# Altium footprint library WA-MTAB.PcbLib: 8 footprints
Each footprint in its own frame and in the unit in brackets; x right, y up, seen from the top. Pads: shape width x height; smd on the part's side, far side on the other; paste and mask are expansions set on the pad; w line width, h text height; cw(c..) or ccw(c..) is an arc to the next point about the centre after c.
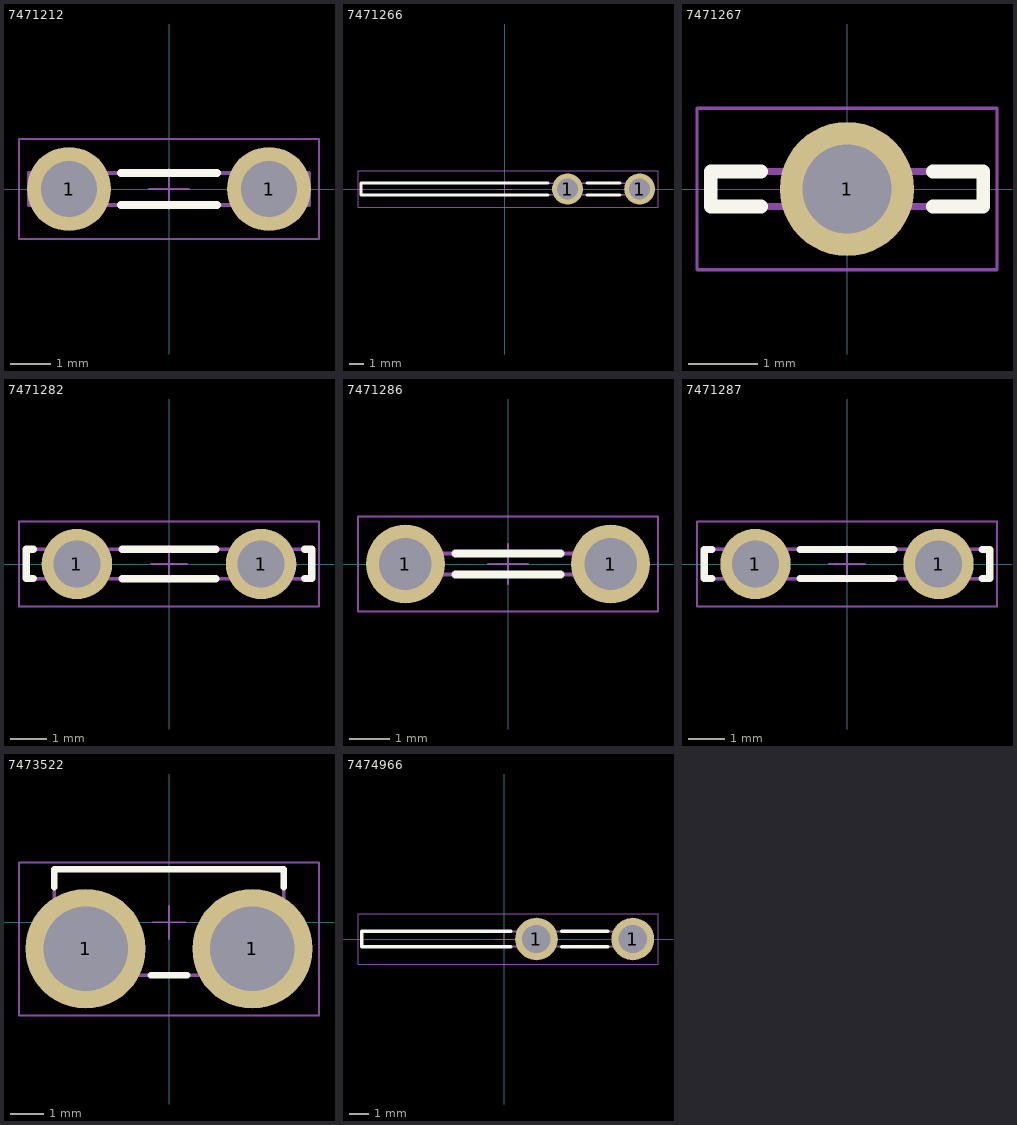
[diagram p0: the footprints below, top view; thin cyan lines are the x and y axes]

## 7471212 [mm] "Mounting Tabs & Tubular Cable Lugs"
height 13
pads (2):
  round 2.1 hole 1.4: 1(-2.5,0) 1(2.5,0)
Top Overlay:
  lines w0.2: -1.2,-0.4 1.2,-0.4 ; -1.2,0.4 1.2,0.4
Top Designator:
  text ".Designator" at -2.499,-0.167 h0.5
Top Component Outline:
  lines w0.1: -3.5,-0.4 3.5,-0.4 3.5,0.4 -3.5,0.4 -3.5,-0.4
Top 3D Body:
  lines w0.1: -3.5,-0.4 -3.5,0.4 3.5,0.4 3.5,-0.4 -3.5,-0.4
Top Courtyard:
  lines w0.05: -0.5,0 0.5,0 ; 0,-0.5 0,0.5 ; -3.75,-1.25 -3.75,1.25 3.75,1.25 3.75,-1.25 -3.75,-1.25
3D body "7471212.stp": height 9.65, standoff -3.35, extent -3.5,-0.4 3.5,0.4

## 7471266 [mm] "Mounting Tabs & Tubular Cable Lugs"
height 12.7
pads (2):
  round 2.15 hole 1.45: 1(4.35,0) 1(9.35,0)
Top Overlay:
  lines w0.2: 3,-0.425 -10,-0.425 -10,0.425 3,0.425 ; 5.7,-0.425 8,-0.425 ; 5.7,0.425 8,0.425
Top Designator:
  text ".Designator" at -2.499,-0.167 h0.5
Top Component Outline:
  lines w0.1: -10,-0.4 -10,0.4 10,0.4 10,-0.4 -10,-0.4
Top 3D Body:
  lines w0.1: -10,-0.4 10,-0.4 10,0.4 -10,0.4 -10,-0.4
Top Courtyard:
  lines w0.05: -0.5,0 0.5,0 ; 0,-0.5 0,0.5 ; -10.2,-1.275 -10.2,1.275 10.625,1.275 10.625,-1.275 -10.2,-1.275
3D body "7471266.stp": height 8.98, standoff -3.72, extent -10,-0.4 10,0.4

## 7471267 [mm] "Mounting Tabs & Tubular Cable Lugs"
height 9.02
pads (1):
  round 1.95 hole 1.3: 1(0,0)
Top Overlay:
  lines w0.2: -1.25,-0.255 -1.98,-0.255 -1.98,0.255 -1.25,0.255 ; 1.25,-0.255 1.98,-0.255 1.98,0.255 1.25,0.255
Top Designator:
  text ".Designator" at -2.499,-0.167 h0.5
Top Component Outline:
  lines w0.1: -1.98,-0.255 1.98,-0.255 1.98,0.255 -1.98,0.255 -1.98,-0.255
Top 3D Body:
  lines w0.1: -1.98,-0.255 -1.98,0.255 1.98,0.255 1.98,-0.255 -1.98,-0.255
Top Courtyard:
  lines w0.05: -0.5,0 0.5,0 ; 0,-0.5 0,0.5 ; -2.18,-1.175 -2.18,1.175 2.18,1.175 2.18,-1.175 -2.18,-1.175
3D body "7471267.stp": height 9.06, standoff -4.71, extent -1.98,-0.255 1.98,0.255

## 7471282 [mm] "Mounting Tabs & Tubular Cable Lugs"
height 14
pads (2):
  round 1.95 hole 1.3: 1(-2.55,0) 1(2.55,0)
Top Overlay:
  lines w0.2: -3.75,-0.405 -3.95,-0.405 -3.95,0.405 -3.75,0.405 ; -1.3,-0.405 1.3,-0.405 ; -1.3,0.405 1.3,0.405 ; 3.75,-0.405 3.95,-0.405 3.95,0.405 3.75,0.405
Top Designator:
  text ".Designator" at -2.499,-0.167 h0.5
Top Component Outline:
  lines w0.1: -3.95,-0.405 3.95,-0.405 3.95,0.405 -3.95,0.405 -3.95,-0.405
Top 3D Body:
  lines w0.1: -3.95,-0.405 -3.95,0.405 3.95,0.405 3.95,-0.405 -3.95,-0.405
Top Courtyard:
  lines w0.05: -0.5,0 0.5,0 ; 0,-0.5 0,0.5 ; -4.15,-1.175 -4.15,1.175 4.15,1.175 4.15,-1.175 -4.15,-1.175
3D body "7471282.stp": height 10.25, standoff -3.75, extent -3.95,-0.405 3.95,0.405

## 7471286 [mm] "Mounting Tabs & Tubular Cable Lugs"
height 8.89
pads (2):
  round 1.95 hole 1.3: 1(-2.54,0) 1(2.54,0)
Top Overlay:
  lines w0.2: -1.3,-0.255 1.3,-0.255 ; -1.3,0.255 1.3,0.255
Top Designator:
  text ".Designator" at -2.499,-0.167 h0.5
Top Component Outline:
  lines w0.1: -3.175,-0.255 -3.175,0.255 3.175,0.255 3.175,-0.255 -3.175,-0.255
Top 3D Body:
  lines w0.1: -3.175,-0.255 3.175,-0.255 3.175,0.255 -3.175,0.255 -3.175,-0.255
Top Courtyard:
  lines w0.05: -0.5,0 0.5,0 ; 0,-0.5 0,0.5 ; -3.715,-1.175 3.715,-1.175 3.715,1.175 -3.715,1.175 -3.715,-1.175
3D body "7471286.stp": height 8.92, standoff -3.78, extent -3.175,-0.255 3.175,0.255

## 7471287 [mm] "Mounting Tabs & Tubular Cable Lugs"
height 10.21
pads (2):
  round 1.95 hole 1.3: 1(-2.54,0) 1(2.54,0)
Top Overlay:
  lines w0.2: -3.75,-0.405 -3.96,-0.405 -3.96,0.405 -3.75,0.405 ; -1.3,-0.405 1.3,-0.405 ; -1.3,0.405 1.3,0.405 ; 3.75,-0.405 3.96,-0.405 3.96,0.405 3.75,0.405
Top Designator:
  text ".Designator" at -2.499,-0.167 h0.5
Top Component Outline:
  lines w0.1: -3.96,-0.405 -3.96,0.405 3.96,0.405 3.96,-0.405 -3.96,-0.405
Top 3D Body:
  lines w0.1: -3.96,-0.405 3.96,-0.405 3.96,0.405 -3.96,0.405 -3.96,-0.405
Top Courtyard:
  lines w0.05: -0.5,0 0.5,0 ; 0,-0.5 0,0.5 ; -4.16,-1.175 -4.16,1.175 4.16,1.175 4.16,-1.175 -4.16,-1.175
3D body "7471287.stp": height 10.27, standoff -3.75, extent -3.96,-0.405 3.96,0.405

## 7473522 [mm] "Mounting Tabs & Tubular Cable Lugs"
height 6.35
pads (2):
  round 3.6 hole 2.54: 1(-2.5,-0.795) 1(2.5,-0.795)
Top Overlay:
  lines w0.2: -3.44,1.055 -3.44,1.59 3.44,1.59 3.44,1.055 ; -0.55,-1.59 0.55,-1.59
Top Designator:
  text ".Designator" at -4.998,-0.333 h1
Top Component Outline:
  lines w0.1: -3.44,-1.59 -3.44,1.59 3.44,1.59 3.44,1.59 3.44,-1.59 -3.44,-1.59
Top 3D Body:
  lines w0.1: -3.44,-1.59 3.44,-1.59 3.44,1.59 3.44,1.59 -3.44,1.59 -3.44,-1.59
Top Courtyard:
  lines w0.05: -0.5,0 0.5,0 ; 0,-0.5 0,0.5 ; -4.5,-2.795 4.5,-2.795 4.5,1.79 -4.5,1.79 -4.5,-2.795
3D body "7473522.stp": height 7.21, standoff -3.89, extent -3.44,-1.59 3.44,1.59

## 7474966 [mm] "Mounting Tabs & Tubular Cable Lugs"
height 8.89
pads (2):
  round 2.25 hole 1.5: 1(1.705,0) 1(6.785,0)
Top Overlay:
  lines w0.2: 0.345,-0.405 -7.495,-0.405 -7.495,0.405 0.345,0.405 ; 3.045,-0.405 5.445,-0.405 ; 3.045,0.405 5.445,0.405
Top Designator:
  text ".Designator" at -2.499,-0.167 h0.5
Top Component Outline:
  lines w0.1: -7.495,-0.405 7.495,-0.405 7.495,0.405 -7.495,0.405 -7.495,-0.405
Top 3D Body:
  lines w0.1: -7.495,-0.405 -7.495,0.405 7.495,0.405 7.495,-0.405 -7.495,-0.405
Top Courtyard:
  lines w0.05: -0.5,0 0.5,0 ; 0,-0.5 0,0.5 ; -7.695,-1.325 -7.695,1.325 8.11,1.325 8.11,-1.325 -7.695,-1.325
3D body "7474966.stp": height 8.98, standoff -3.72, extent -7.495,-0.405 7.495,0.405